# Altium schematic symbol library IRFS7530.SchLib: 1 symbol
Pins are listed as number, name and electrical type; pins without a type are passive.

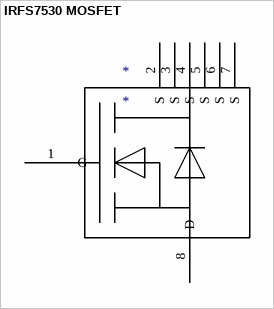
[diagram p0: symbol IRFS7530 MOSFET]

## IRFS7530 MOSFET
designator *
footprint DPAK127P1525X483-7N (D2-PAK, 7-Pads, Body 7,93x8,63mm (max), IPC Medium Density)
pins: 1 G, 2 S, 3 S, 4 S, 5 S, 6 S, 7 S, 8 D